# Altium schematic symbol library Header_1P.Schlib: 1 symbol
Pins are listed as number, name and electrical type; pins without a type are passive.

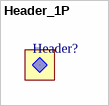
[diagram p0: symbol Header_1P]

## Header_1P
designator Header?  (value not drawn)
footprint Header_1P
pins: 1